# Altium schematic symbol library JS202011JCQN.SchLib: 1 symbol
Pins are listed as number, name and electrical type; pins without a type are passive.

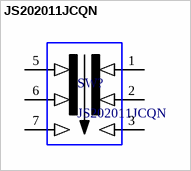
[diagram p0: symbol JS202011JCQN]

## JS202011JCQN
designator SW?
Sub-Miniature Slide Switch, VERTICAL MOUNT SMT - J BEND
footprint JS202011JCQN
pins: 1, 2, 3, 5, 6, 7